# EAGLE library part SIGHTLINE_JST_GH_SM06B-GHS-TB (library SLA_1500_CAM_V8)
JST SM06B-GHS-TB JST Type GH 1.25mm side-entry smt 6-pin connector Specifications Manufacturer: JST Manufacturer Part Number: SM06B-GHS-TB Body Size(mm): 10.75 X 4.25 JST TYPE GH DATASHEET <http://www.jst-mfg.com/product/pdf/eng/eGH.pdf> Created by: Kimball S. Davis 5 February 2019 Version 001
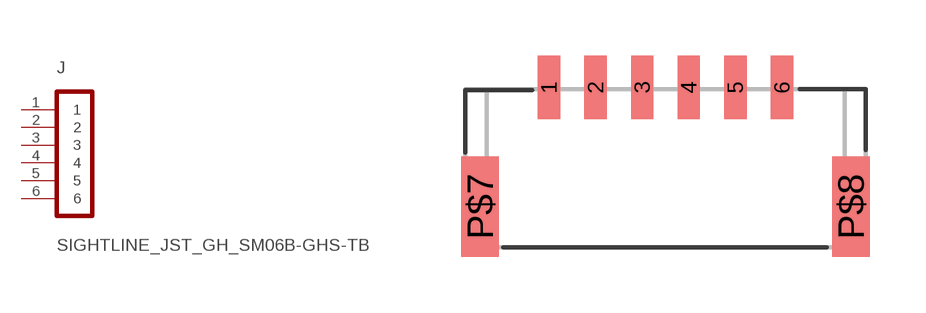
[diagram p2: symbol with the pads of SIGHTLINE_JST_SM06B-GHS-TB; footprint SIGHTLINE_JST_SM06B-GHS-TB]

Designator prefix J

## SIGHTLINE_JST_GH_SM06B-GHS-TB (DESCRIPTION: 1.25 MM SIDE-ENTRY 6-PIN SMT CONNECTOR; MANF: JST; MANF#: SM06B-GHS-TB)  [SIGHTLINE_JST_SM06B-GHS-TB]
1  1
2  2
3  3
4  4
5  5
6  6

## Footprint SIGHTLINE_JST_SM06B-GHS-TB (pad centres in mm)
smd 0.6 x 1.7: 1 -3.23,1.95; 2 -1.98,1.95; 3 -0.73,1.95; 4 0.52,1.95; 5 1.77,1.95; 6 3.02,1.95
smd 1 x 2.7: P$7 -5.08,-1.25; P$8 4.87,-1.25